# Altium schematic symbol library RT0603DRE0753K6L.SchLib: 1 symbol
Pins are listed as number, name and electrical type; pins without a type are passive.

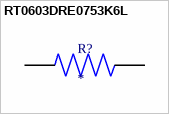
[diagram p0: symbol RT0603DRE0753K6L]

## RT0603DRE0753K6L
designator R?
53.6 kOhms Â±0.5% 0.1W, 1/10W Chip Resistor 0603 (1608 Metric) Thin Film; MF: Yageo; MP: RT0603DRE0753K6L; SnapEDA_Link: https://www.snapeda.com/parts/RT0603DRE0753K6L/Yageo/view-part/?ref=snap; Package: 1608 Yageo; Value: *; Check_prices: https://www.snapeda.com/parts/RT0603DRE0753K6L/Yageo/view-part/?ref=eda
footprint RESC1608X55N
pins: 1, 2